# Altium schematic symbol library SW PUSH TACT NO SMD.SchLib: 1 symbol
Pins are listed as number, name and electrical type; pins without a type are passive.

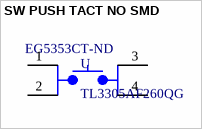
[diagram p0: symbol SW PUSH TACT NO SMD]

## SW PUSH TACT NO SMD
designator U, comment TL3305AF260QG  Supplier Part Number 1: EG5353CT-ND
Tactile Switch SPST-NO Top Actuated Surface Mount; MF: E-Switch; Price: None; Value: *; MP: TL3305AF260QG; Package: LQFP-48 E-Switch; SnapEDA_Link: https://www.snapeda.com/parts/TL3305AF260QG/E-Switch/view-part/479903/?ref=snap; Availability: Unavailable; Supplier 1: Digi-Key
footprint SW_TL3305AF260QG
pins: 1, 2, 3, 4